# EAGLE library part LT3758 (library linear-technology)
Connect-List generated from LT3757.DEV Variant EDD#PBF with split-device-symbol.ulp
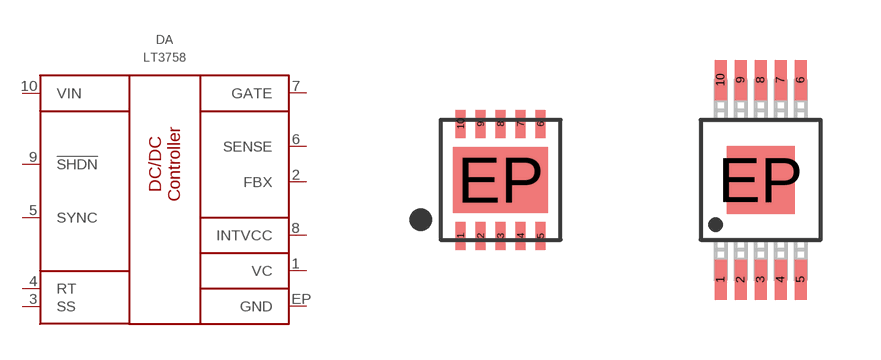
[diagram p8: symbol with the pads of 10-LEAD; footprints 10-LEAD, MSOP10-EP]

Designator prefix DA

## LT3758EDD#PBF  [10-LEAD]
1  VC  in
2  FBX  pas
3  SS  pas
4  RT  pas
5  SYNC  in
6  SENSE  in
7  GATE  out
8  INTVCC  pwr
9  !SHDN  in
10  VIN  pwr
EP  GND  pwr

## LT3758IDD#PBF  [10-LEAD]
Pads as for 10-LEAD

## LT3758EMSE#PBF  [MSOP10-EP]
Pads as for 10-LEAD

## LT3758IMSE#PBF  [MSOP10-EP]
Pads as for 10-LEAD

## LT3758HMSE#PBF  [MSOP10-EP]
Pads as for 10-LEAD

## LT3758MPMSE#PBF  [MSOP10-EP]
Pads as for 10-LEAD

## Footprint 10-LEAD (pad centres in mm)
smd 0.25 x 0.7: 1 -1,-1.4; 2 -0.5,-1.4; 3 0,-1.4; 4 0.5,-1.4; 5 1,-1.4; 6 1,1.4; 7 0.5,1.4; 8 0,1.4; 9 -0.5,1.4; 10 -1,1.4
smd 2.38 x 1.65: EP 0,0

## Footprint MSOP10-EP (pad centres in mm)
smd 0.3 x 1: 1 -1,-2.5; 2 -0.5,-2.5; 3 0,-2.5; 4 0.5,-2.5; 5 1,-2.5; 6 1,2.5; 7 0.5,2.5; 8 0,2.5; 9 -0.5,2.5; 10 -1,2.5
smd 1.7 x 1.7: EP 0,0